# Altium footprint library PQFN50P500X500X80_HS-33N.PcbLib: 1 footprints
Each footprint in its own frame and in the unit in brackets; x right, y up, seen from the top. Pads: shape width x height; smd on the part's side, far side on the other; paste and mask are expansions set on the pad; w line width, h text height; cw(c..) or ccw(c..) is an arc to the next point about the centre after c.
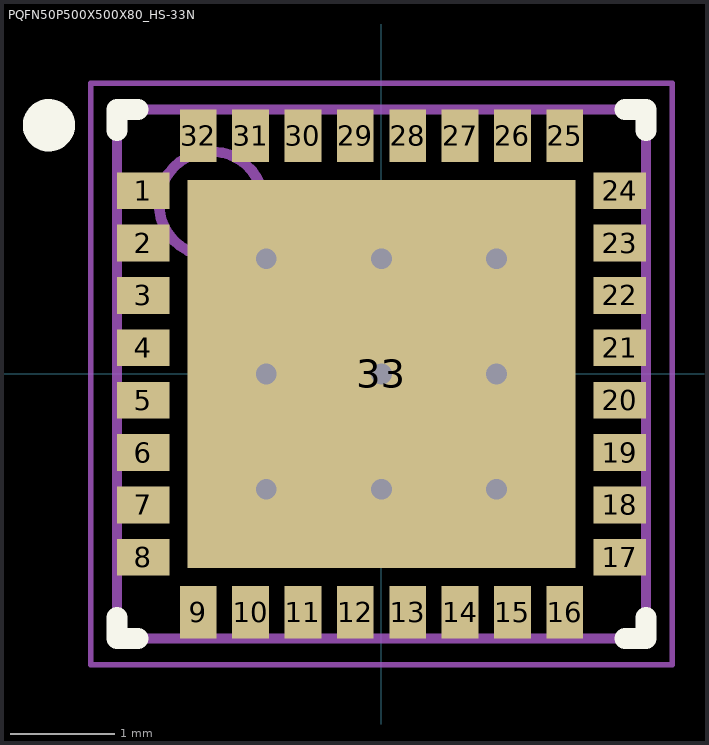
[diagram p0: the footprint, top view; thin cyan lines are the x and y axes]

## PQFN50P500X500X80_HS-33N [mm] "PQFN, 32-Leads, Body 5.00x5.00mm, Pitch 0.50mm, Thermal Pad 3.70x3.70mm, IPC Medium Density"
height 0.8
pads (33):
  rect 0.5x0.35 smd: 1(-2.275,1.75) 2(-2.275,1.25) 3(-2.275,0.75) 4(-2.275,0.25) 5(-2.275,-0.25) 6(-2.275,-0.75) 7(-2.275,-1.25) 8(-2.275,-1.75) 17(2.275,-1.75) 18(2.275,-1.25) 19(2.275,-0.75) 20(2.275,-0.25) 21(2.275,0.25) 22(2.275,0.75) 23(2.275,1.25) 24(2.275,1.75)
  rect 0.35x0.5 smd: 9(-1.75,-2.275) 10(-1.25,-2.275) 11(-0.75,-2.275) 12(-0.25,-2.275) 13(0.25,-2.275) 14(0.75,-2.275) 15(1.25,-2.275) 16(1.75,-2.275) 25(1.75,2.275) 26(1.25,2.275) 27(0.75,2.275) 28(0.25,2.275) 29(-0.25,2.275) 30(-0.75,2.275) 31(-1.25,2.275) 32(-1.75,2.275)
  rect 3.7x3.7 smd: 33(0,0)
via -1.1,1.1 diameter 0.5 hole 0.2
via 0,1.1 diameter 0.5 hole 0.2
via 1.1,1.1 diameter 0.5 hole 0.2
via -1.1,0 diameter 0.5 hole 0.2
via 0,0 diameter 0.5 hole 0.2
via 1.1,0 diameter 0.5 hole 0.2
via -1.1,-1.1 diameter 0.5 hole 0.2
via 0,-1.1 diameter 0.5 hole 0.2
via 1.1,-1.1 diameter 0.5 hole 0.2
Top Overlay:
  circle w0.25: c-3.175,2.375 r0.125
  lines w0.2: -2.525,-2.325 -2.525,-2.525 -2.325,-2.525 ; -2.525,2.325 -2.525,2.525 -2.325,2.525 ; 2.325,-2.525 2.525,-2.525 2.525,-2.325 ; 2.325,2.525 2.525,2.525 2.525,2.325
Mechanical 13:
  circle w0.1: c-1.625,1.625 r0.5
  lines w0.1: -2.525,-2.525 -2.525,2.525 2.525,2.525 2.525,-2.525 -2.525,-2.525
Mechanical 15:
  lines w0.05: -2.775,-2.775 -2.775,2.775 2.775,2.775 2.775,-2.775 -2.775,-2.775
  lines w0.1: -0.5,0 0.5,0 ; 0,-0.5 0,0.5
3D body "PQFN50P500X500X80_HS-33N.step": height 0.8, standoff 0, extent -2.525,-2.525 2.525,2.525